# Altium footprint library pcb lib.PcbLib: 160 footprints (part 8 of 10)
Each footprint in its own frame and in the unit in brackets; x right, y up, seen from the top. Pads: shape width x height; smd on the part's side, far side on the other; paste and mask are expansions set on the pad; w line width, h text height; cw(c..) or ccw(c..) is an arc to the next point about the centre after c.
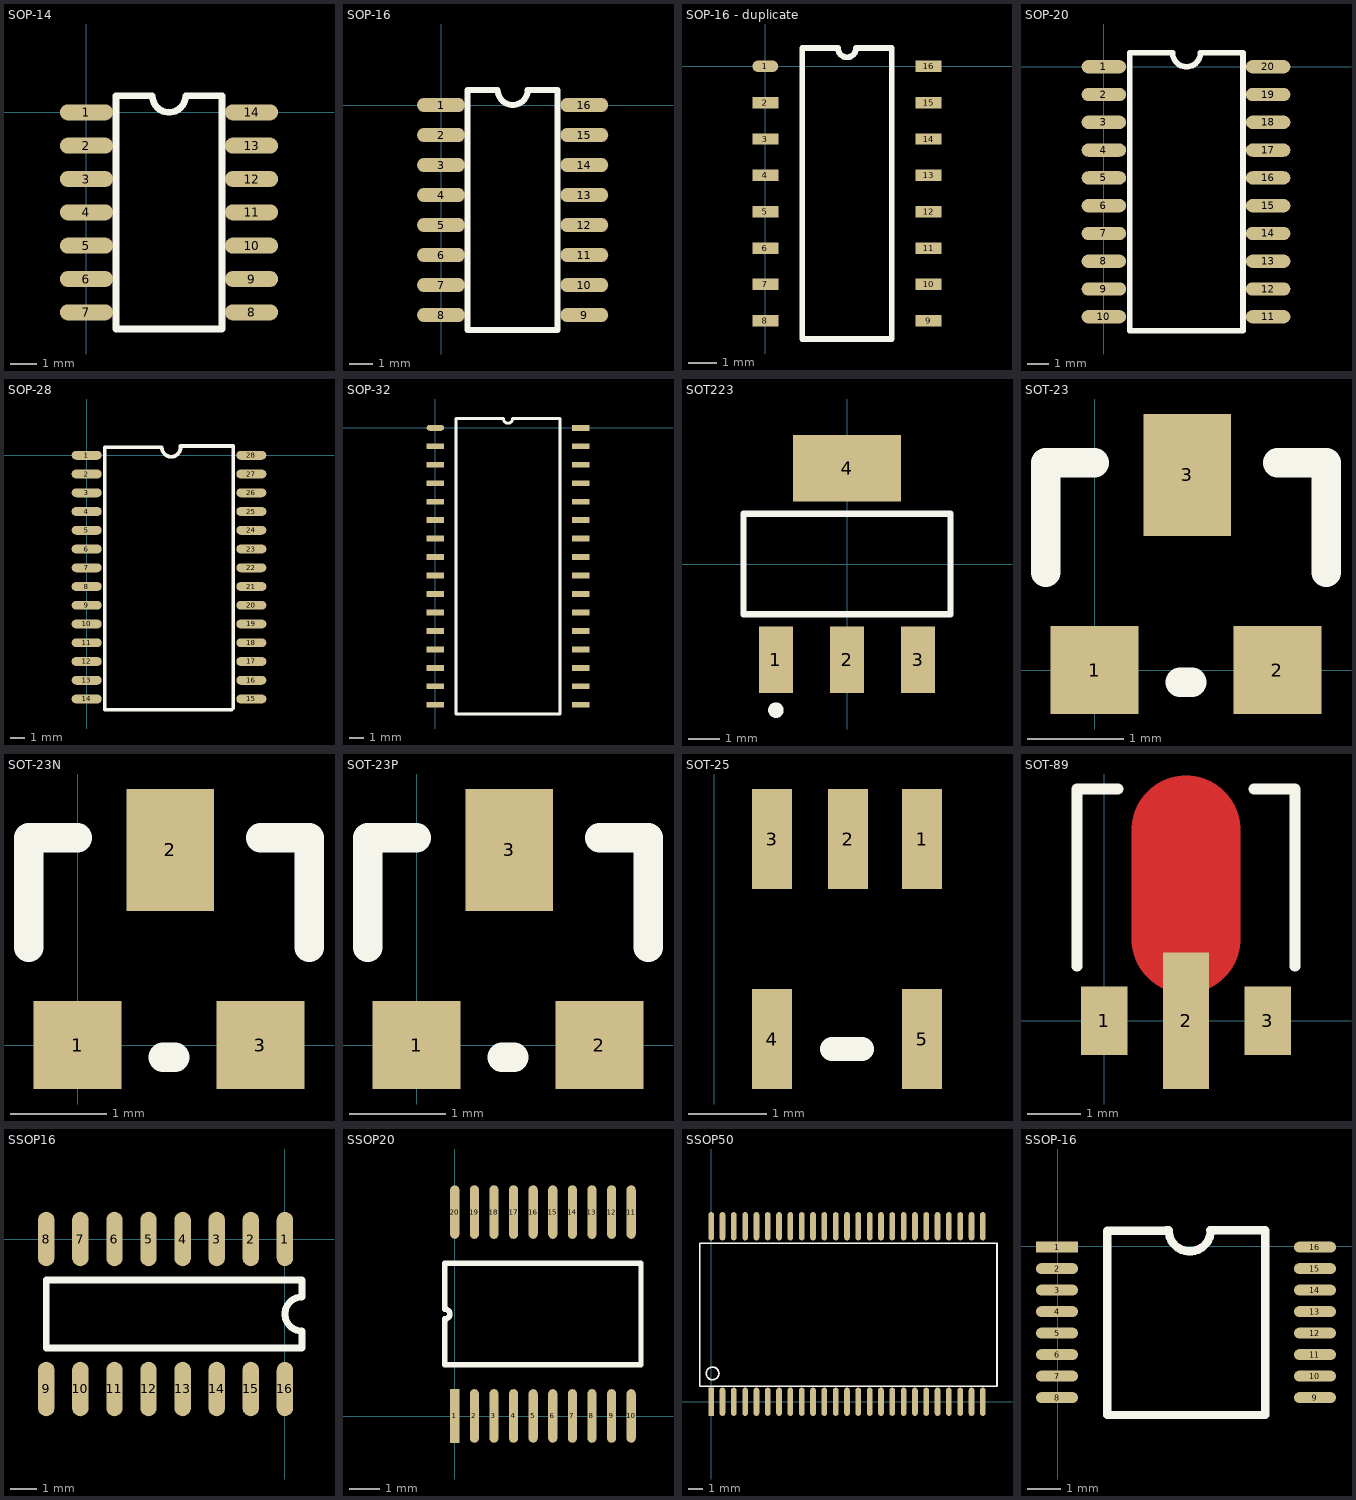
[diagram p7: the footprints below, top view; thin cyan lines are the x and y axes]

## SOP-14 [mil]
pads (14):
  oval 80x24 smd: 1(0,0) 2(0,-50) 3(0,-100) 4(0,-150) 5(0,-200) 6(0,-250) 7(0,-300) 8(247.56,-300) 9(247.56,-250) 10(247.56,-200) 11(247.56,-150) 12(247.56,-100) 13(247.56,-50) 14(247.56,0)
Top Overlay:
  lines w10: 44.25,-325 44.25,25 98.78,25 ccw(c123.78,25) 148.78,25 203.31,25 203.31,-325 44.25,-325

## SOP-16 [mil]
pads (16):
  oval 80x24 smd: 1(0,0) 2(0,-50) 3(0,-100) 4(0,-150) 5(0,-200) 6(0,-250) 7(0,-300) 8(0,-350) 9(238.5,-350) 10(238.5,-300) 11(238.5,-250) 12(238.5,-200) 13(238.5,-150) 14(238.5,-100) 15(238.5,-50) 16(238.5,0)
Top Overlay:
  lines w10: 44.25,-375 44.25,25 94.25,25 ccw(c119.25,25) 144.25,25 194.25,25 194.25,-375 44.25,-375

## SOP-16 - duplicate [mm] "stc"
pads (16):
  oval 0.9x0.4 smd: 1(0,0)
  rect 0.9x0.4 smd: 2(0,-1.27) 3(0,-2.54) 4(0,-3.81) 5(0,-5.08) 6(0,-6.35) 7(0,-7.62) 8(0,-8.89) 9(5.7,-8.89) 10(5.7,-7.62) 11(5.7,-6.35) 12(5.7,-5.08) 13(5.7,-3.81) 14(5.7,-2.54) 15(5.7,-1.27) 16(5.7,0)
Top Overlay:
  lines w0.2: 1.285,-9.525 1.285,0.635 2.532,0.635 ccw(c2.85,0.635) 3.167,0.635 4.415,0.635 4.415,-9.525 1.285,-9.525

## SOP-20 [mil]
pads (20):
  oval 80x24 smd: 1(0,0) 2(0,-50) 3(0,-100) 4(0,-150) 5(0,-200) 6(0,-250) 7(0,-300) 8(0,-350) 9(0,-400) 10(0,-450) 11(295.59,-450) 12(295.59,-400) 13(295.59,-350) 14(295.59,-300) 15(295.59,-250) 16(295.59,-200) 17(295.59,-150) 18(295.59,-100) 19(295.59,-50) 20(295.59,0)
Top Overlay:
  lines w10: 46.22,-475 46.22,25 123.78,25 ccw(c148.78,25) 173.78,25 250.35,25 250.35,-475 46.22,-475

## SOP-28 [mil]
pads (28):
  oval 80x24 smd: 1(0,0) 2(0,-50) 3(0,-100) 4(0,-150) 5(0,-200) 6(0,-250) 7(0,-300) 8(0,-350) 9(0,-400) 10(0,-450) 11(0,-500) 12(0,-550) 13(0,-600) 14(0,-650) 15(439.29,-650) 16(439.29,-600) 17(439.29,-550) 18(439.29,-500) 19(439.29,-450) 20(439.29,-400) 21(439.29,-350) 22(439.29,-300) 23(439.29,-250) 24(439.29,-200) 25(439.29,-150) 26(439.29,-100) 27(439.29,-50) 28(439.29,0)
Top Overlay:
  lines w10: 196.61,21.06 48.19,21.06 48.19,-678.94 387.17,-678.94 ; 200.55,21.06 ccw(c225.55,21.06) 250.55,21.06 ; 250.55,25 391.1,25 391.1,-675

## SOP-32 [mm] "stc"
pads (32):
  oval 1.2x0.4 smd: 1(0,0)
  rect 1.2x0.4 smd: 2(0,-1.27) 3(0,-2.54) 4(0,-3.81) 5(0,-5.08) 6(0,-6.35) 7(0,-7.62) 8(0,-8.89) 9(0,-10.16) 10(0,-11.43) 11(0,-12.7) 12(0,-13.97) 13(0,-15.24) 14(0,-16.51) 15(0,-17.78) 16(0,-19.05) 17(10,-19.05) 18(10,-17.78) 19(10,-16.51) 20(10,-15.24) 21(10,-13.97) 22(10,-12.7) 23(10,-11.43) 24(10,-10.16) 25(10,-8.89) 26(10,-7.62) 27(10,-6.35) 28(10,-5.08) 29(10,-3.81) 30(10,-2.54) 31(10,-1.27) 32(10,0)
Top Overlay:
  lines w0.2: 1.435,-19.685 8.565,-19.685 8.565,0.635 5.318,0.635 cw(c5,0.635) 4.683,0.635 1.435,0.635 1.435,-19.685

## SOT223 [mm] "SOT-223/SC-73; 4 Leads; Body 6.7 x 7.3 mm, inc. leads (LxW max)"
height 1.8
pads (4):
  rect 1.1x2.15 smd: 1(-2.3,-3.1) 2(0,-3.1) 3(2.3,-3.1)
  rect 3.5x2.15 smd: 4(0,3.1)
Top Overlay:
  circle w0.25: c-2.3,-4.725 r0.125
  lines w0.2: -3.35,-1.625 -3.35,1.625 3.35,1.625 3.35,-1.625 -3.35,-1.625

## SOT-23 [mil]
pads (3):
  rect 36x36 smd: 1(0,0) 2(75,0)
  rect 36x50 smd: 3(38,80)
Top Overlay:
  lines w12: -20,40 -20,85 0,85 ; 35,-5 40,-5 ; 75,85 95,85 95,40

## SOT-23N [mil]
pads (3):
  rect 36x36 smd: 1(0,0) 3(75,0)
  rect 36x50 smd: 2(38,80)
Top Overlay:
  lines w12: -20,40 -20,85 0,85 ; 35,-5 40,-5 ; 75,85 95,85 95,40

## SOT-23P [mil]
pads (3):
  rect 36x36 smd: 1(0,0) 2(75,0)
  rect 36x50 smd: 3(38,80)
Top Overlay:
  lines w12: -20,40 -20,85 0,85 ; 35,-5 40,-5 ; 75,85 95,85 95,40

## SOT-25 [mil]
pads (5):
  rect 20x50 smd: 1(104,-40) 2(67,-40) 3(29,-40) 4(29,-140) 5(104,-140)
Top Overlay:
  lines w12: 59,-145 74,-145

## SOT-89 [mil]
pads (3):
  rect 34x50 smd: 1(0,0) 3(120,0)
  rect 34x100 smd: 2(60,0)
Top Layer:
  lines w80: 60,60 60,140
Top Overlay:
  lines w8: -20,40 -20,170 10,170 ; 110,170 140,170 140,40

## SSOP16 [mil]
pads (16):
  oval 24x80 smd: 1(0.17,0.43) 2(-49.83,0.43) 3(-99.83,0.43) 4(-149.83,0.43) 5(-199.83,0.43) 6(-249.83,0.43) 7(-299.83,0.43) 8(-349.83,0.43) 9(-349.83,-219.57) 10(-299.83,-219.57) 11(-249.83,-219.57) 12(-199.83,-219.57) 13(-149.83,-219.57) 14(-99.83,-219.57) 15(-49.83,-219.57) 16(0.17,-219.57)
Top Overlay:
  lines w10: -349.83,-159.57 -349.83,-59.57 25.17,-59.57 25.17,-84.57 ccw(c25.17,-109.57) 25.17,-134.57 25.17,-159.57 -349.83,-159.57

## SSOP20 [mil]
pads (20):
  rect 12x70 smd: 1(0,0.06)
  oval 12x70 smd: 2(25.59,0.06) 3(51.18,0.06) 4(76.77,0.06) 5(102.36,0.06) 6(127.95,0.06) 7(153.54,0.06) 8(179.13,0.06) 9(204.72,0.06) 10(230.31,0.06) 11(230.31,266.28) 12(204.72,266.28) 13(179.13,266.28) 14(153.54,266.28) 15(127.95,266.28) 16(102.36,266.28) 17(76.77,266.28) 18(51.18,266.28) 19(25.59,266.28) 20(0,266.28)
Top Overlay:
  lines w7.09: -12.79,66.84 243.11,66.84 243.11,199.51 -12.79,199.51 -12.79,139.57 cw(c-12.79,133.17) -12.8,126.78 -12.79,66.84

## SSOP50 [mm]
pads (50):
  rect 0.4x2 smd: 1(0,0)
  oval 0.4x2 smd: 2(0.8,0) 3(1.6,0) 4(2.4,0) 5(3.2,0) 6(4,0) 7(4.8,0) 8(5.6,0) 9(6.4,0) 10(7.2,0) 11(8,0) 12(8.8,0) 13(9.6,0) 14(10.4,0) 15(11.2,0) 16(12,0) 17(12.8,0) 18(13.6,0) 19(14.4,0) 20(15.2,0) 21(16,0) 22(16.8,0) 23(17.6,0) 24(18.4,0) 25(19.2,0) 26(19.2,12.4) 27(18.4,12.4) 28(17.6,12.4) 29(16.8,12.4) 30(16,12.4) 31(15.2,12.4) 32(14.4,12.4) 33(13.6,12.4) 34(12.8,12.4) 35(12,12.4) 36(11.2,12.4) 37(10.4,12.4) 38(9.6,12.4) 39(8.8,12.4) 40(8,12.4) 41(7.2,12.4) 42(6.4,12.4) 43(5.6,12.4) 44(4.8,12.4) 45(4,12.4) 46(3.2,12.4) 47(2.4,12.4) 48(1.6,12.4) 49(0.8,12.4) 50(0,12.4)
Top Overlay:
  circle w0.127: c0.1,2 r0.447
  lines w0.127: -0.8,1.1 20.2,1.1 20.2,11.2 -0.8,11.2 -0.8,1.1

## SSOP-16 [mm]
pads (16):
  rect 1.27x0.33 smd: 1(-0.025,-0.025)
  oval 1.27x0.33 smd: 2(-0.025,-0.675) 3(-0.025,-1.325) 4(-0.025,-1.975) 5(-0.025,-2.625) 6(-0.025,-3.275) 7(-0.025,-3.925) 8(-0.025,-4.575) 9(7.775,-4.575) 10(7.775,-3.925) 11(7.775,-3.275) 12(7.775,-2.625) 13(7.775,-1.975) 14(7.775,-1.325) 15(7.775,-0.675) 16(7.775,-0.025)
Top Overlay:
  lines w0.254: 1.499,-5.1 1.499,0.475 3.269,0.475 3.277,0.483 ; 1.549,-5.1 6.274,-5.1 6.274,0.475 6.266,0.483 4.6,0.483 ; 3.353,0.483 ccw(c3.988,0.483) 4.623,0.483